# Altium footprint library Components - 16.05.23 - 17.12.PcbLib: 1 footprints
Each footprint in its own frame and in the unit in brackets; x right, y up, seen from the top. Pads: shape width x height; smd on the part's side, far side on the other; paste and mask are expansions set on the pad; w line width, h text height; cw(c..) or ccw(c..) is an arc to the next point about the centre after c.
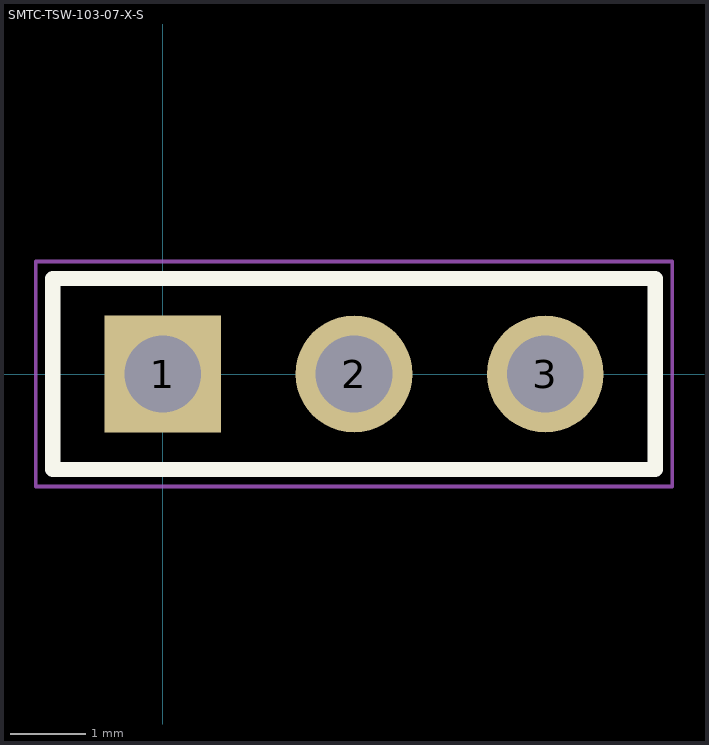
[diagram p0: the footprint, top view; thin cyan lines are the x and y axes]

## SMTC-TSW-103-07-X-S [mm] ".025 SQ Post Terminal Strip Assembly, 1x3 Pins, Vertical, 2.54mm Pitch, Male"
height 8.58
pads (3):
  rect 1.55x1.55 hole 1.02: 1(0,0)
  round 1.55 hole 1.02: 2(2.54,0) 3(5.08,0)
Top Overlay:
  lines w0.2: -1.46,-1.27 6.54,-1.27 6.54,1.27 -1.46,1.27 -1.46,-1.27
Mechanical 13:
  lines w0.1: -1.46,-1.27 6.54,-1.27 6.54,1.27 -1.46,1.27 -1.46,-1.27
Mechanical 15:
  lines w0.05: -1.685,-1.495 6.765,-1.495 6.765,1.495 -1.685,1.495 -1.685,-1.495
3D body "TSW-103-07-X-S.step": height 8.38, standoff -2.54, extent -1.27,-1.27 6.35,1.27